# Altium footprint library HF105F-1_005D-1HST1_Update.PcbLib: 1 footprints
Each footprint in its own frame and in the unit in brackets; x right, y up, seen from the top. Pads: shape width x height; smd on the part's side, far side on the other; paste and mask are expansions set on the pad; w line width, h text height; cw(c..) or ccw(c..) is an arc to the next point about the centre after c.
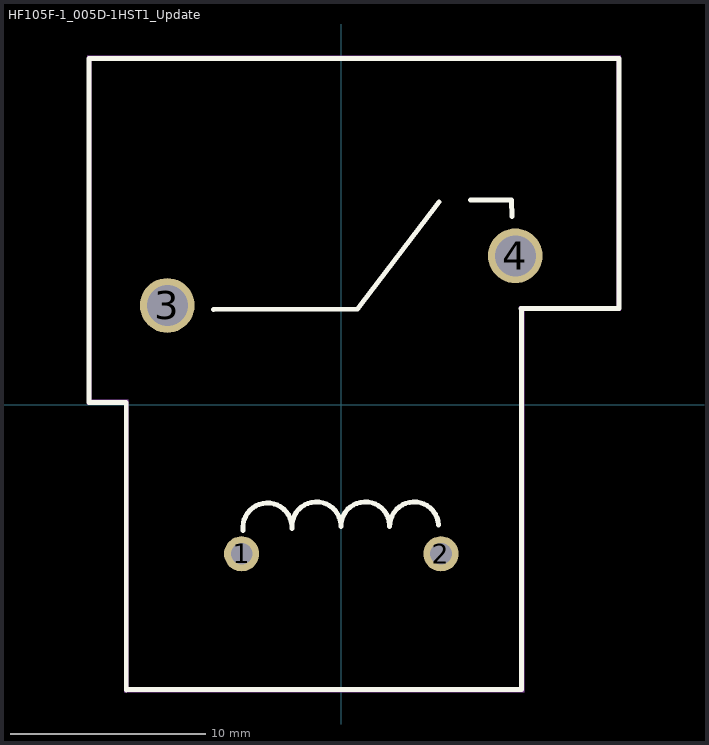
[diagram p0: the footprint, top view; thin cyan lines are the x and y axes]

## HF105F-1_005D-1HST1_Update [mm]
pads (4):
  round 1.8 hole 1.1: 1(-5.1,-7.62) 2(5.1,-7.62)
  round 2.8 hole 2.1: 3(-8.9,5.08) 4(8.9,7.62)
Top Overlay:
  lines w0.254: -6.528,4.88 0.82,4.9 5,10.38 ; -5.024,-6.437 cw(c-3.778,-6.277) -2.524,-6.338 ; -2.524,-6.239 cw(c-1.274,-6.216) -0.025,-6.14 ; -0.025,-6.239 cw(c1.226,-6.216) 2.474,-6.14 ; 2.474,-6.239 cw(c3.725,-6.216) 4.974,-6.14 ; 6.6,10.48 8.7,10.48 8.738,9.624 ; -12.9,0.12 -11,0.12 -11,-0.08 -11,-14.58 -11,-14.57 9.21,-14.57 9.21,4.92 9.2,4.92 14.2,4.92 14.2,17.68 14.2,17.72 -12.9,17.72 -12.9,0.12
Mechanical 6:
  region: 9.1,-14.45 9.1,5.05 14.1,5.05 14.1,17.6 14.3,17.6 14.3,4.8 9.35,4.8 9.35,-14.45
  region: -11.1,-14.7 -11.1,0 -13,0 -13,17.85 14.3,17.85 14.3,17.6 -12.8,17.6 -12.8,0.25 -10.9,0.25 -10.9,-14.45 9.35,-14.45 9.35,-14.7
Mechanical 15:
  region: -5.45,-7.27 -4.75,-7.27 -4.75,-7.97 -5.45,-7.97
  region: 4.75,-7.27 5.45,-7.27 5.45,-7.97 4.75,-7.97
  region: 8.15,7.97 9.65,7.97 9.65,7.27 8.15,7.27
  region: -9.525,5.705 -8.275,5.705 -8.275,4.455 -9.525,4.455
  lines w0.051: -12.9,0.12 -11,0.12 -11,-14.58 9.2,-14.58 9.2,4.92 14.2,4.92 14.2,17.72 -12.9,17.72 -12.9,0.12